# Altium integrated library Linear Technology Power Management LED Driver ICs.IntLib: 490 symbols (part 19 of 48)
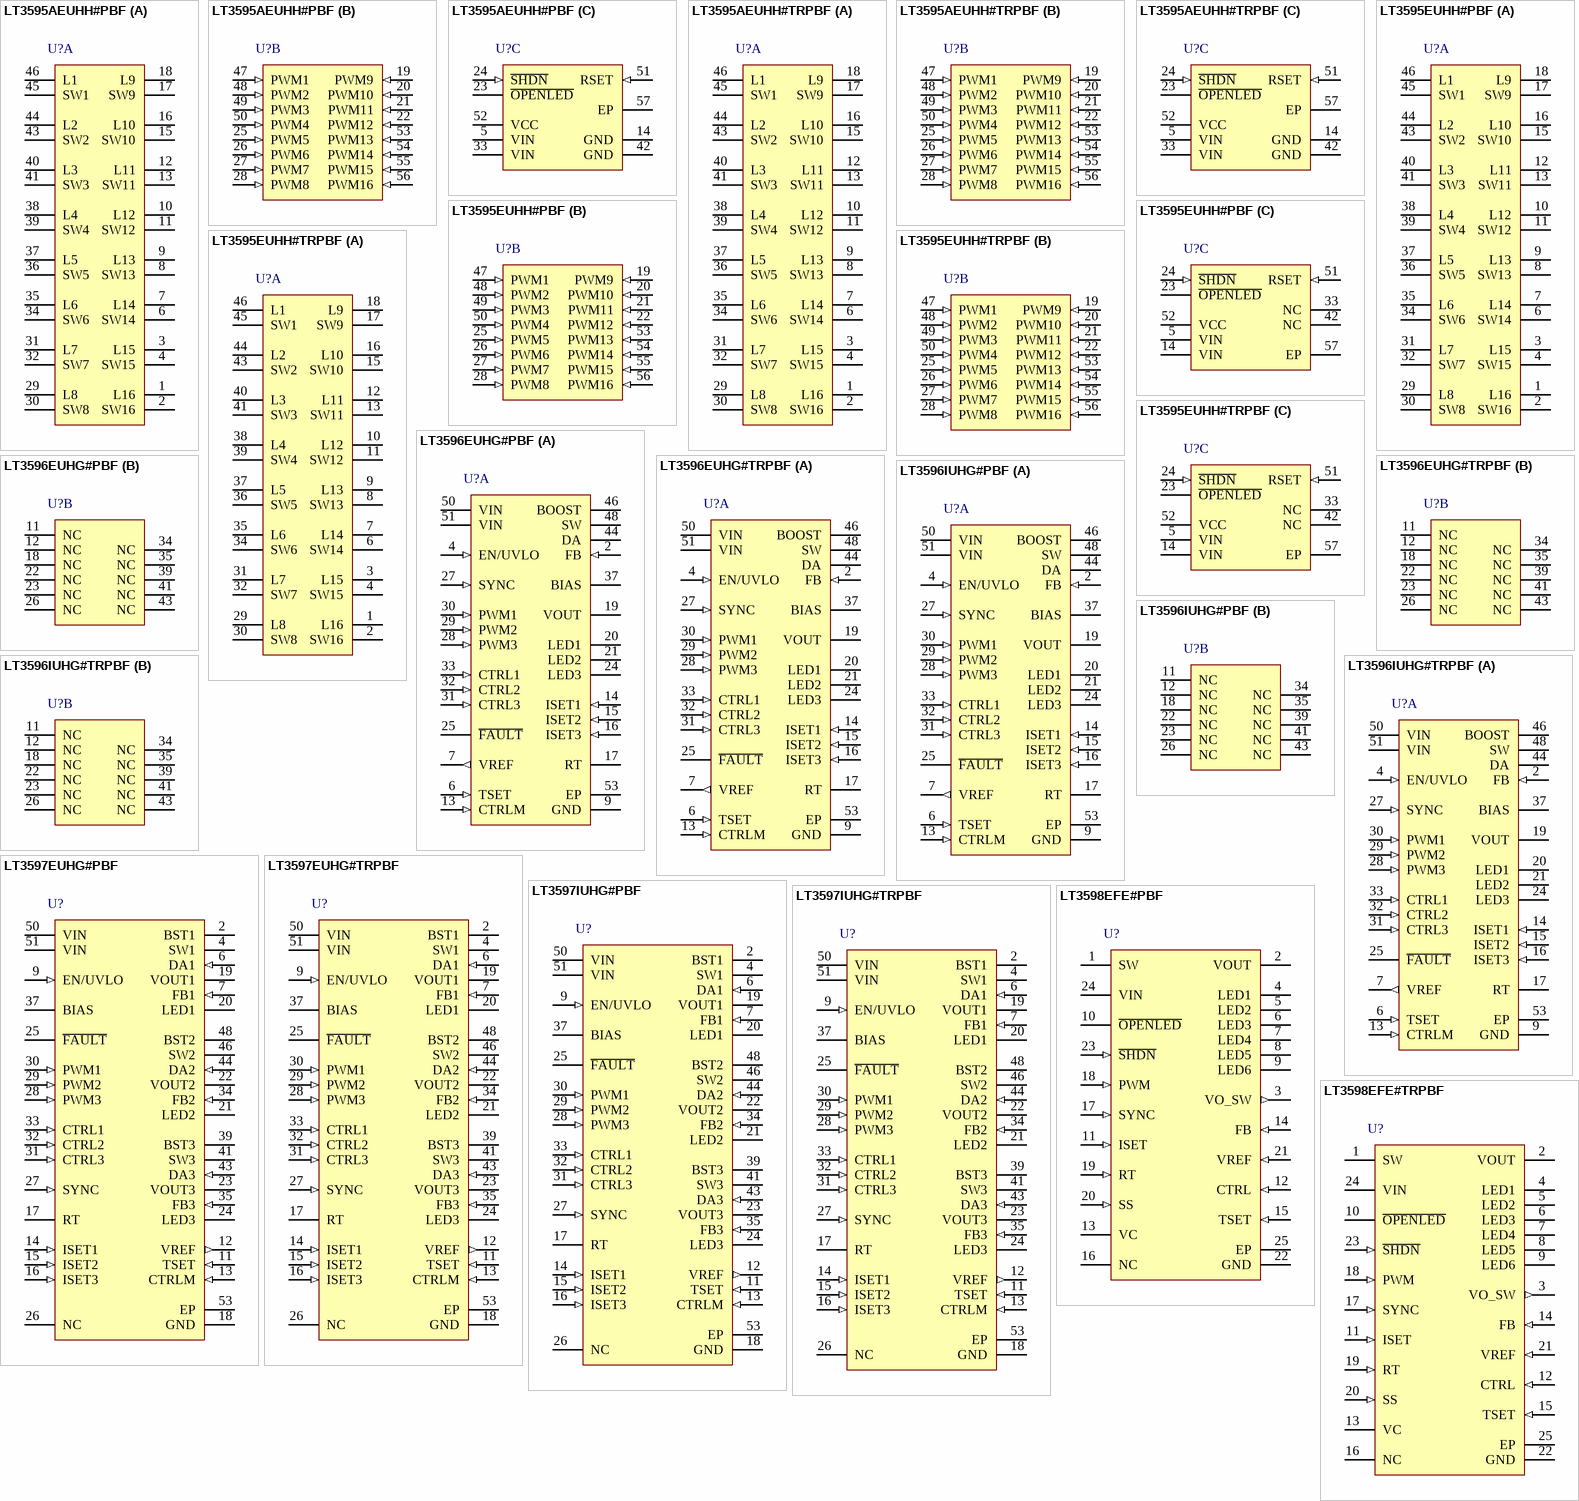
[diagram p38: symbols LT3595AEUHH#PBF to LT3598EFE#TRPBF]

## LT3598EFE#TRPBF
designator U?
6-String 30 mA LED Driver with 1.5% Current Matching, 3.2 to 30 V Vin, 44 V Vout MAX, 24-pin SOP (FE-24-EPV-AA), -40 to 125 degC, Pb-Free, Tape and Reel; Manufacturer: Linear Technology; PartNumber: LT3598EFE#TRPBF; Topology: Boost, Sepic, LED Driver; Vin Min(V): 3.2; DatasheetVersion: Rev. B; PackageVersion: Rev. B, 09/2010; PackageReference: FE-24; PackageDescription: 24-Pin Plastic TSSOP, Body 7.8 x 4.4 mm, Pitch 0.65 mm; Supplier 1: Digi-Key; Supplier Part Number 1: LT3598EFE#TRPBF-ND; Packing: Tape and Reel; RoHS: TRUE; Mounting Technology: Surface Mount; ComponentLink1Description: Manufacturer URL; ComponentLink1URL: http://www.linear.com/; ComponentLink2Description: Datasheet; ComponentLink2URL: http://cds.linear.com/docs/en/datasheet/3598fb.pdf; ComponentLink3Description: Package Specification; ComponentLink3URL: http://cds.linear.com/docs/en/packaging/TSSOP_24_05-08-1771.pdf
footprint LT-FE-24-EPV-AA_N (SOP, 24-Leads, Body 7.9x4.5mm, Pitch 0.65mm, Thermal Pad 2.74x3.25mm, IPC Medium Density)
footprint LT-FE-24-EPV-AA_L (SOP, 24-Leads, Body 7.9x4.5mm, Pitch 0.65mm, Thermal Pad 2.74x3.25mm, IPC High Density)
footprint LT-FE-24-EPV-AA_M (SOP, 24-Leads, Body 7.9x4.5mm, Pitch 0.65mm, Thermal Pad 2.74x3.25mm, IPC Low Density)
pins: 1 SW (power) "Switch Pin. This is the collector of the internal NPN power switch. Minimize the metal trace area connected to this pin to minimize EMI.", 2 VOUT (power) "Output Pin. This pin provides power to all LEDs.", 3 VO_SW (out) "Drain of an Internal PMOS. The internal PMOS disconnects the feedback resistors from the VOUT pin during shutdown and the PWM transitioned to low.", 4 LED1 (power) "LED String Output. Connect the bottom cathode of each LED string to these pins. Tie pins to VOUT if the string is not used.", 5 LED2 (power) "LED String Output. Connect the bottom cathode of each LED string to these pins. Tie pins to VOUT if the string is not used.", 6 LED3 (power) "LED String Output. Connect the bottom cathode of each LED string to these pins. Tie pins to VOUT if the string is not used.", 7 LED4 (power) "LED String Output. Connect the bottom cathode of each LED string to these pins. Tie pins to VOUT if the string is not used.", 8 LED5 (power) "LED String Output. Connect the bottom cathode of each LED string to these pins. Tie pins to VOUT if the string is not used.", 9 LED6 (power) "LED String Output. Connect the bottom cathode of each LED string to these pins. Tie pins to VOUT if the string is not used.", 10 ~{OPENLED} (oc) "Open LED Flag When Any LED String Opens. The output is open-collector. Tie a resistor to other supply for open LED fl ag function.", 11 ISET (in) "Programs LED Current for Each String. Connect a 14.7k resistor between ISET and GND to program each LED string current to 20mA. A 47pF capacitor on the ISET pin reduces current ripple in each LED string.", 12 CTRL (in) "LED Current Control. If the CTRL pin is not used, tie this pin to VREF through a 10k to 20k resistor.", 13 VC "Error Amplifier Output Pin. Tie the external compensation network to this pin.", 14 FB (in) "Feedback Pin for Overvoltage Protection. Reference voltage is 1.230V. Connect the resistive divider tap here. Minimize trace area at FB. Set VOUT according to VOUT = 1.230(1 + R2/R1) when overvoltage protection occurs (see (See Datasheet)", 15 TSET (in) "An external resistor divider from VREF programs a decrease in LED current versus internal junction temperature (setting temperature breakpoint and slope). If the TSET pin is not used, tie this pin to VREF.", 16 NC "No Connection.", 17 SYNC (in) "Frequency Synchronization Pin. This input allows for synchronizing the operating frequency to an external clock. The RT resistor should be chosen to program a switching frequency 20% slower than SYNC pulse frequency. This (See Datasheet)", 18 PWM (in) "Input Pin for PWM Dimming Control. Above 1V allows converter switching and below 0.4V disables switching with VC pin level maintained. A PWM signal driving the PWM pin provides accurate dimming control. The PWM signal can be (See Datasheet)", 19 RT (in) "A resistor to ground programs switching frequency between 200kHz and 2.5MHz. For SYNC function, choose the resistor to program a frequency 20% slower than the SYNC pulse frequency. Do not leave this pin open.", 20 SS (in) "Soft-Start Pin. Place a soft-start capacitor here. Upon start-up, a 10uA current charges the capacitor. Use a larger capacitor for slower start-up. Leave open if not used.", 21 VREF (in) "Bandgap Voltage Reference. Internally set to 1.230V. This pin can supply up to 100uA. Can be used to program the CTRL pin voltage using resistor dividers to ground.", 22 GND (power) "Ground. Tie directly to local ground plane.", 23 ~{SHDN} (in) "Shutdown Pin. Tie to 1.6V or more to enable the device. Tie below 0.4V or less to disable device. Do not fl oat this pin.", 24 VIN (power) "Input Supply Pin. Must be locally bypassed with a capacitor to ground.", 25 EP (power) "Ground. The Exposed Pad must be soldered to the PCB"

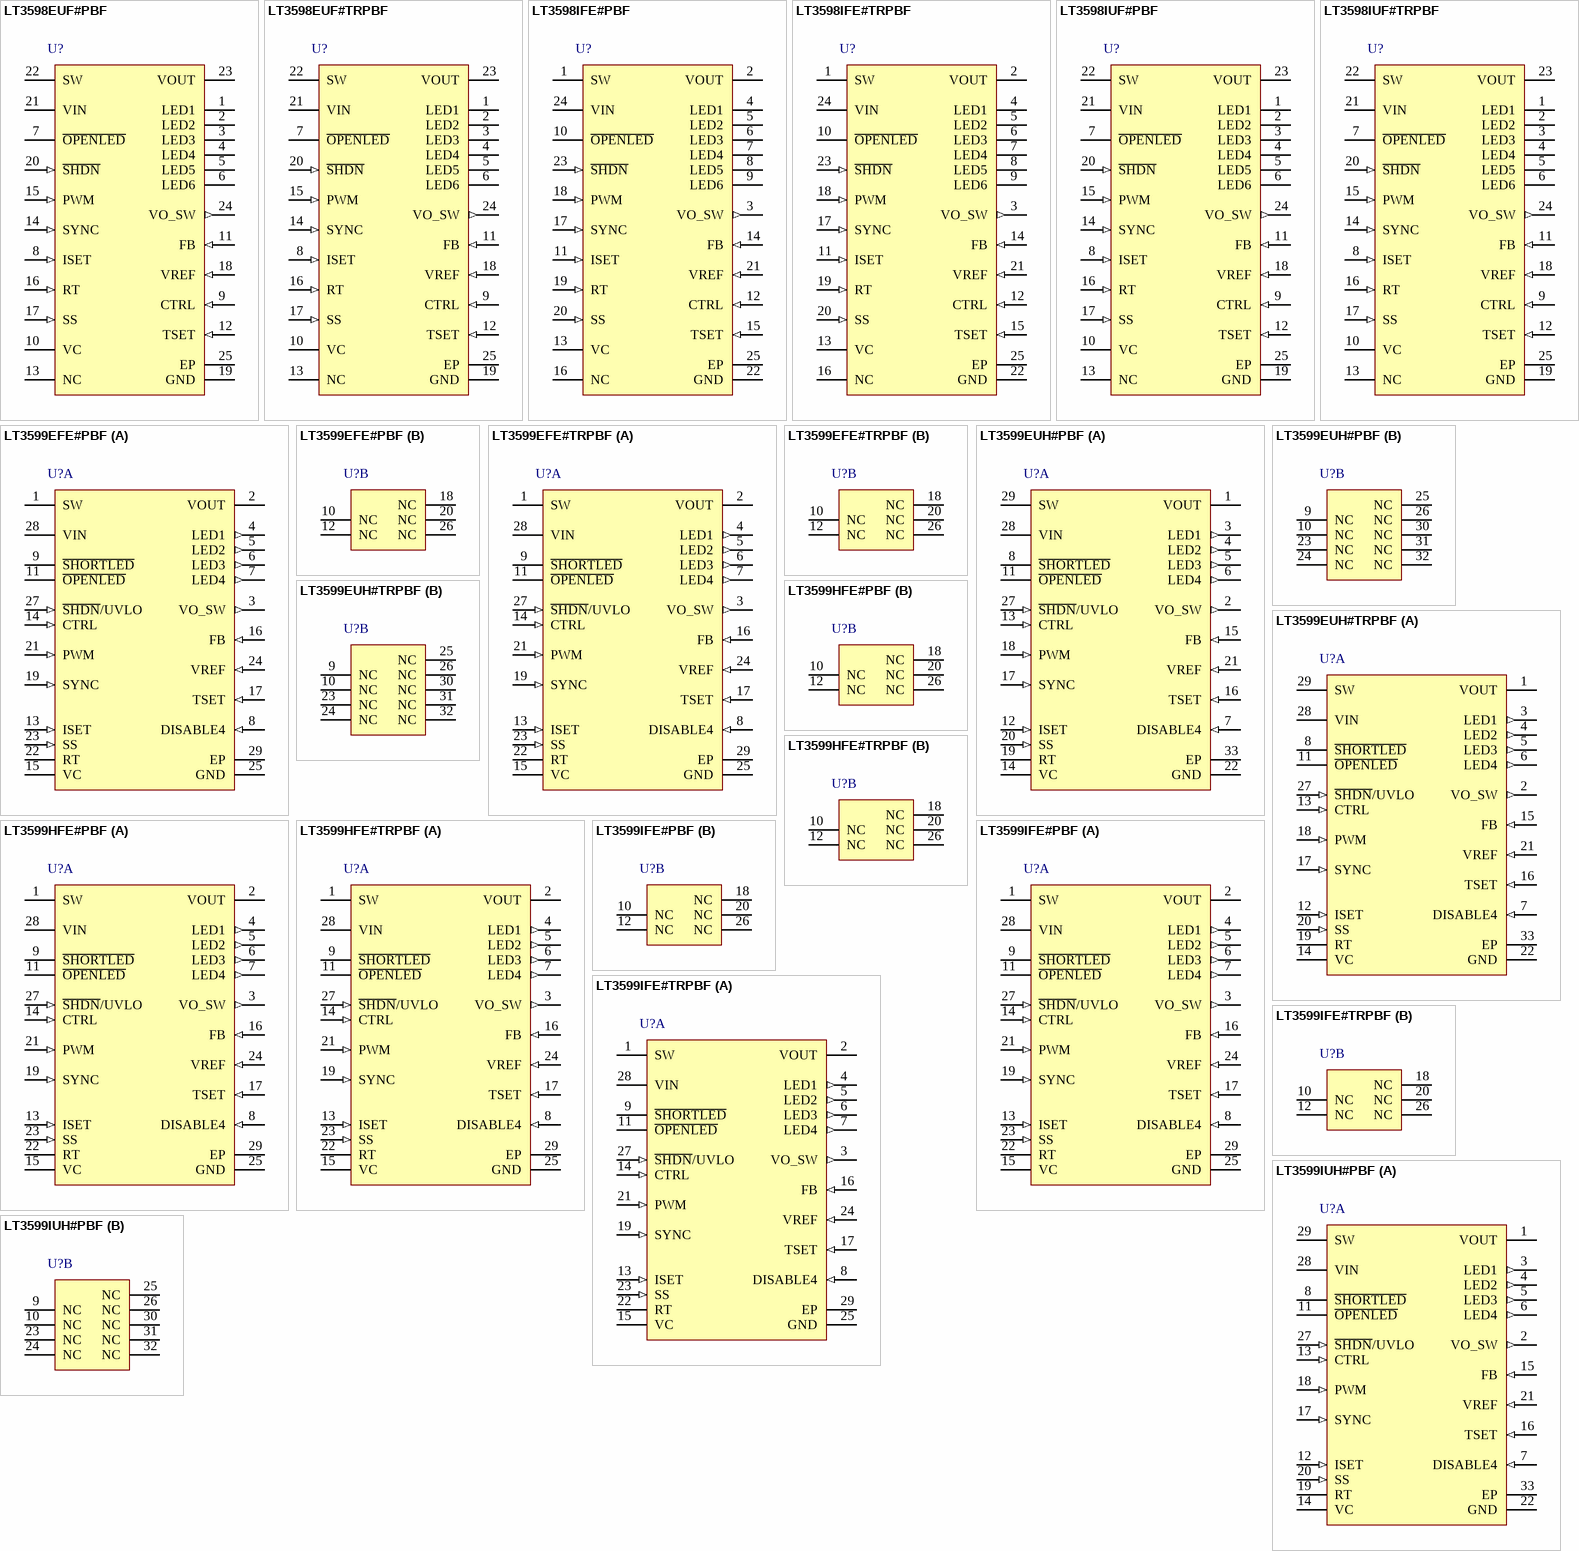
[diagram p8: symbols LT3598EUF#PBF to LT3599IUH#PBF]

## LT3598EUF#PBF
designator U?
6-String 30 mA LED Driver with 1.5% Current Matching, 3.2 to 30 V Vin, 44 V Vout MAX, 24-pin QFN (UF-24), -40 to 125 degC, Pb-Free; Manufacturer: Linear Technology; PartNumber: LT3598EUF#PBF; Topology: Boost, Sepic, LED Driver; Vin Min(V): 3.2; DatasheetVersion: Rev. B; PackageVersion: Rev. B, 02/2012; PackageReference: UF24; PackageDescription: 24-Pin Plastic QFN, Body 4 x 4 mm, Pitch 0.5 mm; Supplier 1: Digi-Key; Supplier Part Number 1: LT3598EUF#PBF-ND; Supplier 2: Farnell; Supplier Part Number 2: 1673529; Supplier 3: Farnell; Supplier Part Number 3: 1671961; Supplier 4: Newark; Supplier Part Number 4: 12P6570; RoHS: TRUE; Mounting Technology: Surface Mount; Code_JEDEC: MO-220; ComponentLink1Description: Manufacturer URL; ComponentLink1URL: http://www.linear.com/; ComponentLink2Description: Datasheet; ComponentLink2URL: http://cds.linear.com/docs/en/datasheet/3598fb.pdf; ComponentLink3Description: Package Specification; ComponentLink3URL: http://cds.linear.com/docs/en/packaging/%28UF24%29%20QFN%2005-08-1697%20Rev%20B.pdf
footprint LT-UF-24_N (QFN, 24-Leads, Body 4.1x4.1mm, Pitch 0.5mm, Thermal Pad 2.45x2.45mm, IPC Medium Density)
footprint LT-UF-24_L (QFN, 24-Leads, Body 4.1x4.1mm, Pitch 0.5mm, Thermal Pad 2.45x2.45mm, IPC High Density)
footprint LT-UF-24_M (QFN, 24-Leads, Body 4.1x4.1mm, Pitch 0.5mm, Thermal Pad 2.45x2.45mm, IPC Low Density)
pins: 1 LED1 (power) "LED String Output. Connect the bottom cathode of each LED string to these pins. Tie pins to VOUT if the string is not used.", 2 LED2 (power) "LED String Output. Connect the bottom cathode of each LED string to these pins. Tie pins to VOUT if the string is not used.", 3 LED3 (power) "LED String Output. Connect the bottom cathode of each LED string to these pins. Tie pins to VOUT if the string is not used.", 4 LED4 (power) "LED String Output. Connect the bottom cathode of each LED string to these pins. Tie pins to VOUT if the string is not used.", 5 LED5 (power) "LED String Output. Connect the bottom cathode of each LED string to these pins. Tie pins to VOUT if the string is not used.", 6 LED6 (power) "LED String Output. Connect the bottom cathode of each LED string to these pins. Tie pins to VOUT if the string is not used.", 7 ~{OPENLED} (oc) "Open LED Flag When Any LED String Opens. The output is open-collector. Tie a resistor to other supply for open LED fl ag function.", 8 ISET (in) "Programs LED Current for Each String. Connect a 14.7k resistor between ISET and GND to program each LED string current to 20mA. A 47pF capacitor on the ISET pin reduces current ripple in each LED string.", 9 CTRL (in) "LED Current Control. If the CTRL pin is not used, tie this pin to VREF through a 10k to 20k resistor.", 10 VC "Error Amplifier Output Pin. Tie the external compensation network to this pin.", 11 FB (in) "Feedback Pin for Overvoltage Protection. Reference voltage is 1.230V. Connect the resistive divider tap here. Minimize trace area at FB. Set VOUT according to VOUT = 1.230(1 + R2/R1) when overvoltage protection occurs (see (See Datasheet)", 12 TSET (in) "An external resistor divider from VREF programs a decrease in LED current versus internal junction temperature (setting temperature breakpoint and slope). If the TSET pin is not used, tie this pin to VREF.", 13 NC "No Connection.", 14 SYNC (in) "Frequency Synchronization Pin. This input allows for synchronizing the operating frequency to an external clock. The RT resistor should be chosen to program a switching frequency 20% slower than SYNC pulse frequency. This (See Datasheet)", 15 PWM (in) "Input Pin for PWM Dimming Control. Above 1V allows converter switching and below 0.4V disables switching with VC pin level maintained. A PWM signal driving the PWM pin provides accurate dimming control. The PWM signal can be (See Datasheet)", 16 RT (in) "A resistor to ground programs switching frequency between 200kHz and 2.5MHz. For SYNC function, choose the resistor to program a frequency 20% slower than the SYNC pulse frequency. Do not leave this pin open.", 17 SS (in) "Soft-Start Pin. Place a soft-start capacitor here. Upon start-up, a 10uA current charges the capacitor. Use a larger capacitor for slower start-up. Leave open if not used.", 18 VREF (in) "Bandgap Voltage Reference. Internally set to 1.230V. This pin can supply up to 100uA. Can be used to program the CTRL pin voltage using resistor dividers to ground.", 19 GND (power) "Ground. Tie directly to local ground plane.", 20 ~{SHDN} (in) "Shutdown Pin. Tie to 1.6V or more to enable the device. Tie below 0.4V or less to disable device. Do not fl oat this pin.", 21 VIN (power) "Input Supply Pin. Must be locally bypassed with a capacitor to ground.", 22 SW (power) "Switch Pin. This is the collector of the internal NPN power switch. Minimize the metal trace area connected to this pin to minimize EMI.", 23 VOUT (power) "Output Pin. This pin provides power to all LEDs.", 24 VO_SW (out) "Drain of an Internal PMOS. The internal PMOS disconnects the feedback resistors from the VOUT pin during shutdown and the PWM transitioned to low.", 25 EP (power) "Ground. The Exposed Pad must be soldered to the PCB"

## LT3598EUF#TRPBF
designator U?
6-String 30 mA LED Driver with 1.5% Current Matching, 3.2 to 30 V Vin, 44 V Vout MAX, 24-pin QFN (UF-24), -40 to 125 degC, Pb-Free, Tape and Reel; Manufacturer: Linear Technology; PartNumber: LT3598EUF#TRPBF; Topology: Boost, Sepic, LED Driver; Vin Min(V): 3.2; DatasheetVersion: Rev. B; PackageVersion: Rev. B, 02/2012; PackageReference: UF24; PackageDescription: 24-Pin Plastic QFN, Body 4 x 4 mm, Pitch 0.5 mm; Supplier 1: Digi-Key; Supplier Part Number 1: LT3598EUF#TRPBF-ND; Packing: Tape and Reel; RoHS: TRUE; Mounting Technology: Surface Mount; Code_JEDEC: MO-220; ComponentLink1Description: Manufacturer URL; ComponentLink1URL: http://www.linear.com/; ComponentLink2Description: Datasheet; ComponentLink2URL: http://cds.linear.com/docs/en/datasheet/3598fb.pdf; ComponentLink3Description: Package Specification; ComponentLink3URL: http://cds.linear.com/docs/en/packaging/%28UF24%29%20QFN%2005-08-1697%20Rev%20B.pdf
footprint LT-UF-24_N (QFN, 24-Leads, Body 4.1x4.1mm, Pitch 0.5mm, Thermal Pad 2.45x2.45mm, IPC Medium Density)
footprint LT-UF-24_L (QFN, 24-Leads, Body 4.1x4.1mm, Pitch 0.5mm, Thermal Pad 2.45x2.45mm, IPC High Density)
footprint LT-UF-24_M (QFN, 24-Leads, Body 4.1x4.1mm, Pitch 0.5mm, Thermal Pad 2.45x2.45mm, IPC Low Density)
pins: 1 LED1 (power) "LED String Output. Connect the bottom cathode of each LED string to these pins. Tie pins to VOUT if the string is not used.", 2 LED2 (power) "LED String Output. Connect the bottom cathode of each LED string to these pins. Tie pins to VOUT if the string is not used.", 3 LED3 (power) "LED String Output. Connect the bottom cathode of each LED string to these pins. Tie pins to VOUT if the string is not used.", 4 LED4 (power) "LED String Output. Connect the bottom cathode of each LED string to these pins. Tie pins to VOUT if the string is not used.", 5 LED5 (power) "LED String Output. Connect the bottom cathode of each LED string to these pins. Tie pins to VOUT if the string is not used.", 6 LED6 (power) "LED String Output. Connect the bottom cathode of each LED string to these pins. Tie pins to VOUT if the string is not used.", 7 ~{OPENLED} (oc) "Open LED Flag When Any LED String Opens. The output is open-collector. Tie a resistor to other supply for open LED fl ag function.", 8 ISET (in) "Programs LED Current for Each String. Connect a 14.7k resistor between ISET and GND to program each LED string current to 20mA. A 47pF capacitor on the ISET pin reduces current ripple in each LED string.", 9 CTRL (in) "LED Current Control. If the CTRL pin is not used, tie this pin to VREF through a 10k to 20k resistor.", 10 VC "Error Amplifier Output Pin. Tie the external compensation network to this pin.", 11 FB (in) "Feedback Pin for Overvoltage Protection. Reference voltage is 1.230V. Connect the resistive divider tap here. Minimize trace area at FB. Set VOUT according to VOUT = 1.230(1 + R2/R1) when overvoltage protection occurs (see (See Datasheet)", 12 TSET (in) "An external resistor divider from VREF programs a decrease in LED current versus internal junction temperature (setting temperature breakpoint and slope). If the TSET pin is not used, tie this pin to VREF.", 13 NC "No Connection.", 14 SYNC (in) "Frequency Synchronization Pin. This input allows for synchronizing the operating frequency to an external clock. The RT resistor should be chosen to program a switching frequency 20% slower than SYNC pulse frequency. This (See Datasheet)", 15 PWM (in) "Input Pin for PWM Dimming Control. Above 1V allows converter switching and below 0.4V disables switching with VC pin level maintained. A PWM signal driving the PWM pin provides accurate dimming control. The PWM signal can be (See Datasheet)", 16 RT (in) "A resistor to ground programs switching frequency between 200kHz and 2.5MHz. For SYNC function, choose the resistor to program a frequency 20% slower than the SYNC pulse frequency. Do not leave this pin open.", 17 SS (in) "Soft-Start Pin. Place a soft-start capacitor here. Upon start-up, a 10uA current charges the capacitor. Use a larger capacitor for slower start-up. Leave open if not used.", 18 VREF (in) "Bandgap Voltage Reference. Internally set to 1.230V. This pin can supply up to 100uA. Can be used to program the CTRL pin voltage using resistor dividers to ground.", 19 GND (power) "Ground. Tie directly to local ground plane.", 20 ~{SHDN} (in) "Shutdown Pin. Tie to 1.6V or more to enable the device. Tie below 0.4V or less to disable device. Do not fl oat this pin.", 21 VIN (power) "Input Supply Pin. Must be locally bypassed with a capacitor to ground.", 22 SW (power) "Switch Pin. This is the collector of the internal NPN power switch. Minimize the metal trace area connected to this pin to minimize EMI.", 23 VOUT (power) "Output Pin. This pin provides power to all LEDs.", 24 VO_SW (out) "Drain of an Internal PMOS. The internal PMOS disconnects the feedback resistors from the VOUT pin during shutdown and the PWM transitioned to low.", 25 EP (power) "Ground. The Exposed Pad must be soldered to the PCB"

## LT3598IFE#PBF
designator U?
6-String 30 mA LED Driver with 1.5% Current Matching, 3.2 to 30 V Vin, 44 V Vout MAX, 24-pin SOP (FE-24-EPV-AA), -40 to 125 degC, Pb-Free; Manufacturer: Linear Technology; PartNumber: LT3598IFE#PBF; Topology: Boost, Sepic, LED Driver; Vin Min(V): 3.2; DatasheetVersion: Rev. B; PackageVersion: Rev. B, 09/2010; PackageReference: FE-24; PackageDescription: 24-Pin Plastic TSSOP, Body 7.8 x 4.4 mm, Pitch 0.65 mm; Supplier 1: Digi-Key; Supplier Part Number 1: LT3598IFE#PBF-ND; Supplier 2: Farnell; Supplier Part Number 2: 2294853; Supplier 3: Newark; Supplier Part Number 3: 05R7691; RoHS: TRUE; Mounting Technology: Surface Mount; ComponentLink1Description: Manufacturer URL; ComponentLink1URL: http://www.linear.com/; ComponentLink2Description: Datasheet; ComponentLink2URL: http://cds.linear.com/docs/en/datasheet/3598fb.pdf; ComponentLink3Description: Package Specification; ComponentLink3URL: http://cds.linear.com/docs/en/packaging/TSSOP_24_05-08-1771.pdf
footprint LT-FE-24-EPV-AA_N (SOP, 24-Leads, Body 7.9x4.5mm, Pitch 0.65mm, Thermal Pad 2.74x3.25mm, IPC Medium Density)
footprint LT-FE-24-EPV-AA_L (SOP, 24-Leads, Body 7.9x4.5mm, Pitch 0.65mm, Thermal Pad 2.74x3.25mm, IPC High Density)
footprint LT-FE-24-EPV-AA_M (SOP, 24-Leads, Body 7.9x4.5mm, Pitch 0.65mm, Thermal Pad 2.74x3.25mm, IPC Low Density)
pins: 1 SW (power) "Switch Pin. This is the collector of the internal NPN power switch. Minimize the metal trace area connected to this pin to minimize EMI.", 2 VOUT (power) "Output Pin. This pin provides power to all LEDs.", 3 VO_SW (out) "Drain of an Internal PMOS. The internal PMOS disconnects the feedback resistors from the VOUT pin during shutdown and the PWM transitioned to low.", 4 LED1 (power) "LED String Output. Connect the bottom cathode of each LED string to these pins. Tie pins to VOUT if the string is not used.", 5 LED2 (power) "LED String Output. Connect the bottom cathode of each LED string to these pins. Tie pins to VOUT if the string is not used.", 6 LED3 (power) "LED String Output. Connect the bottom cathode of each LED string to these pins. Tie pins to VOUT if the string is not used.", 7 LED4 (power) "LED String Output. Connect the bottom cathode of each LED string to these pins. Tie pins to VOUT if the string is not used.", 8 LED5 (power) "LED String Output. Connect the bottom cathode of each LED string to these pins. Tie pins to VOUT if the string is not used.", 9 LED6 (power) "LED String Output. Connect the bottom cathode of each LED string to these pins. Tie pins to VOUT if the string is not used.", 10 ~{OPENLED} (oc) "Open LED Flag When Any LED String Opens. The output is open-collector. Tie a resistor to other supply for open LED fl ag function.", 11 ISET (in) "Programs LED Current for Each String. Connect a 14.7k resistor between ISET and GND to program each LED string current to 20mA. A 47pF capacitor on the ISET pin reduces current ripple in each LED string.", 12 CTRL (in) "LED Current Control. If the CTRL pin is not used, tie this pin to VREF through a 10k to 20k resistor.", 13 VC "Error Amplifier Output Pin. Tie the external compensation network to this pin.", 14 FB (in) "Feedback Pin for Overvoltage Protection. Reference voltage is 1.230V. Connect the resistive divider tap here. Minimize trace area at FB. Set VOUT according to VOUT = 1.230(1 + R2/R1) when overvoltage protection occurs (see (See Datasheet)", 15 TSET (in) "An external resistor divider from VREF programs a decrease in LED current versus internal junction temperature (setting temperature breakpoint and slope). If the TSET pin is not used, tie this pin to VREF.", 16 NC "No Connection.", 17 SYNC (in) "Frequency Synchronization Pin. This input allows for synchronizing the operating frequency to an external clock. The RT resistor should be chosen to program a switching frequency 20% slower than SYNC pulse frequency. This (See Datasheet)", 18 PWM (in) "Input Pin for PWM Dimming Control. Above 1V allows converter switching and below 0.4V disables switching with VC pin level maintained. A PWM signal driving the PWM pin provides accurate dimming control. The PWM signal can be (See Datasheet)", 19 RT (in) "A resistor to ground programs switching frequency between 200kHz and 2.5MHz. For SYNC function, choose the resistor to program a frequency 20% slower than the SYNC pulse frequency. Do not leave this pin open.", 20 SS (in) "Soft-Start Pin. Place a soft-start capacitor here. Upon start-up, a 10uA current charges the capacitor. Use a larger capacitor for slower start-up. Leave open if not used.", 21 VREF (in) "Bandgap Voltage Reference. Internally set to 1.230V. This pin can supply up to 100uA. Can be used to program the CTRL pin voltage using resistor dividers to ground.", 22 GND (power) "Ground. Tie directly to local ground plane.", 23 ~{SHDN} (in) "Shutdown Pin. Tie to 1.6V or more to enable the device. Tie below 0.4V or less to disable device. Do not fl oat this pin.", 24 VIN (power) "Input Supply Pin. Must be locally bypassed with a capacitor to ground.", 25 EP (power) "Ground. The Exposed Pad must be soldered to the PCB"

## LT3598IFE#TRPBF
designator U?
6-String 30 mA LED Driver with 1.5% Current Matching, 3.2 to 30 V Vin, 44 V Vout MAX, 24-pin SOP (FE-24-EPV-AA), -40 to 125 degC, Pb-Free, Tape and Reel; Manufacturer: Linear Technology; PartNumber: LT3598IFE#TRPBF; Topology: Boost, Sepic, LED Driver; Vin Min(V): 3.2; DatasheetVersion: Rev. B; PackageVersion: Rev. B, 09/2010; PackageReference: FE-24; PackageDescription: 24-Pin Plastic TSSOP, Body 7.8 x 4.4 mm, Pitch 0.65 mm; Supplier 1: Digi-Key; Supplier Part Number 1: LT3598IFE#TRPBF-ND; Packing: Tape and Reel; RoHS: TRUE; Mounting Technology: Surface Mount; ComponentLink1Description: Manufacturer URL; ComponentLink1URL: http://www.linear.com/; ComponentLink2Description: Datasheet; ComponentLink2URL: http://cds.linear.com/docs/en/datasheet/3598fb.pdf; ComponentLink3Description: Package Specification; ComponentLink3URL: http://cds.linear.com/docs/en/packaging/TSSOP_24_05-08-1771.pdf
footprint LT-FE-24-EPV-AA_N (SOP, 24-Leads, Body 7.9x4.5mm, Pitch 0.65mm, Thermal Pad 2.74x3.25mm, IPC Medium Density)
footprint LT-FE-24-EPV-AA_L (SOP, 24-Leads, Body 7.9x4.5mm, Pitch 0.65mm, Thermal Pad 2.74x3.25mm, IPC High Density)
footprint LT-FE-24-EPV-AA_M (SOP, 24-Leads, Body 7.9x4.5mm, Pitch 0.65mm, Thermal Pad 2.74x3.25mm, IPC Low Density)
pins: 1 SW (power) "Switch Pin. This is the collector of the internal NPN power switch. Minimize the metal trace area connected to this pin to minimize EMI.", 2 VOUT (power) "Output Pin. This pin provides power to all LEDs.", 3 VO_SW (out) "Drain of an Internal PMOS. The internal PMOS disconnects the feedback resistors from the VOUT pin during shutdown and the PWM transitioned to low.", 4 LED1 (power) "LED String Output. Connect the bottom cathode of each LED string to these pins. Tie pins to VOUT if the string is not used.", 5 LED2 (power) "LED String Output. Connect the bottom cathode of each LED string to these pins. Tie pins to VOUT if the string is not used.", 6 LED3 (power) "LED String Output. Connect the bottom cathode of each LED string to these pins. Tie pins to VOUT if the string is not used.", 7 LED4 (power) "LED String Output. Connect the bottom cathode of each LED string to these pins. Tie pins to VOUT if the string is not used.", 8 LED5 (power) "LED String Output. Connect the bottom cathode of each LED string to these pins. Tie pins to VOUT if the string is not used.", 9 LED6 (power) "LED String Output. Connect the bottom cathode of each LED string to these pins. Tie pins to VOUT if the string is not used.", 10 ~{OPENLED} (oc) "Open LED Flag When Any LED String Opens. The output is open-collector. Tie a resistor to other supply for open LED fl ag function.", 11 ISET (in) "Programs LED Current for Each String. Connect a 14.7k resistor between ISET and GND to program each LED string current to 20mA. A 47pF capacitor on the ISET pin reduces current ripple in each LED string.", 12 CTRL (in) "LED Current Control. If the CTRL pin is not used, tie this pin to VREF through a 10k to 20k resistor.", 13 VC "Error Amplifier Output Pin. Tie the external compensation network to this pin.", 14 FB (in) "Feedback Pin for Overvoltage Protection. Reference voltage is 1.230V. Connect the resistive divider tap here. Minimize trace area at FB. Set VOUT according to VOUT = 1.230(1 + R2/R1) when overvoltage protection occurs (see (See Datasheet)", 15 TSET (in) "An external resistor divider from VREF programs a decrease in LED current versus internal junction temperature (setting temperature breakpoint and slope). If the TSET pin is not used, tie this pin to VREF.", 16 NC "No Connection.", 17 SYNC (in) "Frequency Synchronization Pin. This input allows for synchronizing the operating frequency to an external clock. The RT resistor should be chosen to program a switching frequency 20% slower than SYNC pulse frequency. This (See Datasheet)", 18 PWM (in) "Input Pin for PWM Dimming Control. Above 1V allows converter switching and below 0.4V disables switching with VC pin level maintained. A PWM signal driving the PWM pin provides accurate dimming control. The PWM signal can be (See Datasheet)", 19 RT (in) "A resistor to ground programs switching frequency between 200kHz and 2.5MHz. For SYNC function, choose the resistor to program a frequency 20% slower than the SYNC pulse frequency. Do not leave this pin open.", 20 SS (in) "Soft-Start Pin. Place a soft-start capacitor here. Upon start-up, a 10uA current charges the capacitor. Use a larger capacitor for slower start-up. Leave open if not used.", 21 VREF (in) "Bandgap Voltage Reference. Internally set to 1.230V. This pin can supply up to 100uA. Can be used to program the CTRL pin voltage using resistor dividers to ground.", 22 GND (power) "Ground. Tie directly to local ground plane.", 23 ~{SHDN} (in) "Shutdown Pin. Tie to 1.6V or more to enable the device. Tie below 0.4V or less to disable device. Do not fl oat this pin.", 24 VIN (power) "Input Supply Pin. Must be locally bypassed with a capacitor to ground.", 25 EP (power) "Ground. The Exposed Pad must be soldered to the PCB"

## LT3598IUF#PBF
designator U?
6-String 30 mA LED Driver with 1.5% Current Matching, 3.2 to 30 V Vin, 44 V Vout MAX, 24-pin QFN (UF-24), -40 to 125 degC, Pb-Free; Manufacturer: Linear Technology; PartNumber: LT3598IUF#PBF; Topology: Boost, Sepic, LED Driver; Vin Min(V): 3.2; DatasheetVersion: Rev. B; PackageVersion: Rev. B, 02/2012; PackageReference: UF24; PackageDescription: 24-Pin Plastic QFN, Body 4 x 4 mm, Pitch 0.5 mm; Supplier 1: Digi-Key; Supplier Part Number 1: LT3598IUF#PBF-ND; Supplier 2: Farnell; Supplier Part Number 2: 1673524; Supplier 3: Newark; Supplier Part Number 3: 12P7617; RoHS: TRUE; Mounting Technology: Surface Mount; Code_JEDEC: MO-220; ComponentLink1Description: Manufacturer URL; ComponentLink1URL: http://www.linear.com/; ComponentLink2Description: Datasheet; ComponentLink2URL: http://cds.linear.com/docs/en/datasheet/3598fb.pdf; ComponentLink3Description: Package Specification; ComponentLink3URL: http://cds.linear.com/docs/en/packaging/%28UF24%29%20QFN%2005-08-1697%20Rev%20B.pdf
footprint LT-UF-24_N (QFN, 24-Leads, Body 4.1x4.1mm, Pitch 0.5mm, Thermal Pad 2.45x2.45mm, IPC Medium Density)
footprint LT-UF-24_L (QFN, 24-Leads, Body 4.1x4.1mm, Pitch 0.5mm, Thermal Pad 2.45x2.45mm, IPC High Density)
footprint LT-UF-24_M (QFN, 24-Leads, Body 4.1x4.1mm, Pitch 0.5mm, Thermal Pad 2.45x2.45mm, IPC Low Density)
pins: 1 LED1 (power) "LED String Output. Connect the bottom cathode of each LED string to these pins. Tie pins to VOUT if the string is not used.", 2 LED2 (power) "LED String Output. Connect the bottom cathode of each LED string to these pins. Tie pins to VOUT if the string is not used.", 3 LED3 (power) "LED String Output. Connect the bottom cathode of each LED string to these pins. Tie pins to VOUT if the string is not used.", 4 LED4 (power) "LED String Output. Connect the bottom cathode of each LED string to these pins. Tie pins to VOUT if the string is not used.", 5 LED5 (power) "LED String Output. Connect the bottom cathode of each LED string to these pins. Tie pins to VOUT if the string is not used.", 6 LED6 (power) "LED String Output. Connect the bottom cathode of each LED string to these pins. Tie pins to VOUT if the string is not used.", 7 ~{OPENLED} (oc) "Open LED Flag When Any LED String Opens. The output is open-collector. Tie a resistor to other supply for open LED fl ag function.", 8 ISET (in) "Programs LED Current for Each String. Connect a 14.7k resistor between ISET and GND to program each LED string current to 20mA. A 47pF capacitor on the ISET pin reduces current ripple in each LED string.", 9 CTRL (in) "LED Current Control. If the CTRL pin is not used, tie this pin to VREF through a 10k to 20k resistor.", 10 VC "Error Amplifier Output Pin. Tie the external compensation network to this pin.", 11 FB (in) "Feedback Pin for Overvoltage Protection. Reference voltage is 1.230V. Connect the resistive divider tap here. Minimize trace area at FB. Set VOUT according to VOUT = 1.230(1 + R2/R1) when overvoltage protection occurs (see (See Datasheet)", 12 TSET (in) "An external resistor divider from VREF programs a decrease in LED current versus internal junction temperature (setting temperature breakpoint and slope). If the TSET pin is not used, tie this pin to VREF.", 13 NC "No Connection.", 14 SYNC (in) "Frequency Synchronization Pin. This input allows for synchronizing the operating frequency to an external clock. The RT resistor should be chosen to program a switching frequency 20% slower than SYNC pulse frequency. This (See Datasheet)", 15 PWM (in) "Input Pin for PWM Dimming Control. Above 1V allows converter switching and below 0.4V disables switching with VC pin level maintained. A PWM signal driving the PWM pin provides accurate dimming control. The PWM signal can be (See Datasheet)", 16 RT (in) "A resistor to ground programs switching frequency between 200kHz and 2.5MHz. For SYNC function, choose the resistor to program a frequency 20% slower than the SYNC pulse frequency. Do not leave this pin open.", 17 SS (in) "Soft-Start Pin. Place a soft-start capacitor here. Upon start-up, a 10uA current charges the capacitor. Use a larger capacitor for slower start-up. Leave open if not used.", 18 VREF (in) "Bandgap Voltage Reference. Internally set to 1.230V. This pin can supply up to 100uA. Can be used to program the CTRL pin voltage using resistor dividers to ground.", 19 GND (power) "Ground. Tie directly to local ground plane.", 20 ~{SHDN} (in) "Shutdown Pin. Tie to 1.6V or more to enable the device. Tie below 0.4V or less to disable device. Do not fl oat this pin.", 21 VIN (power) "Input Supply Pin. Must be locally bypassed with a capacitor to ground.", 22 SW (power) "Switch Pin. This is the collector of the internal NPN power switch. Minimize the metal trace area connected to this pin to minimize EMI.", 23 VOUT (power) "Output Pin. This pin provides power to all LEDs.", 24 VO_SW (out) "Drain of an Internal PMOS. The internal PMOS disconnects the feedback resistors from the VOUT pin during shutdown and the PWM transitioned to low.", 25 EP (power) "Ground. The Exposed Pad must be soldered to the PCB"

## LT3598IUF#TRPBF
designator U?
6-String 30 mA LED Driver with 1.5% Current Matching, 3.2 to 30 V Vin, 44 V Vout MAX, 24-pin QFN (UF-24), -40 to 125 degC, Pb-Free, Tape and Reel; Manufacturer: Linear Technology; PartNumber: LT3598IUF#TRPBF; Topology: Boost, Sepic, LED Driver; Vin Min(V): 3.2; DatasheetVersion: Rev. B; PackageVersion: Rev. B, 02/2012; PackageReference: UF24; PackageDescription: 24-Pin Plastic QFN, Body 4 x 4 mm, Pitch 0.5 mm; Supplier 1: Digi-Key; Supplier Part Number 1: LT3598IUF#TRPBF-ND; Packing: Tape and Reel; RoHS: TRUE; Mounting Technology: Surface Mount; Code_JEDEC: MO-220; ComponentLink1Description: Manufacturer URL; ComponentLink1URL: http://www.linear.com/; ComponentLink2Description: Datasheet; ComponentLink2URL: http://cds.linear.com/docs/en/datasheet/3598fb.pdf; ComponentLink3Description: Package Specification; ComponentLink3URL: http://cds.linear.com/docs/en/packaging/%28UF24%29%20QFN%2005-08-1697%20Rev%20B.pdf
footprint LT-UF-24_N (QFN, 24-Leads, Body 4.1x4.1mm, Pitch 0.5mm, Thermal Pad 2.45x2.45mm, IPC Medium Density)
footprint LT-UF-24_L (QFN, 24-Leads, Body 4.1x4.1mm, Pitch 0.5mm, Thermal Pad 2.45x2.45mm, IPC High Density)
footprint LT-UF-24_M (QFN, 24-Leads, Body 4.1x4.1mm, Pitch 0.5mm, Thermal Pad 2.45x2.45mm, IPC Low Density)
pins: 1 LED1 (power) "LED String Output. Connect the bottom cathode of each LED string to these pins. Tie pins to VOUT if the string is not used.", 2 LED2 (power) "LED String Output. Connect the bottom cathode of each LED string to these pins. Tie pins to VOUT if the string is not used.", 3 LED3 (power) "LED String Output. Connect the bottom cathode of each LED string to these pins. Tie pins to VOUT if the string is not used.", 4 LED4 (power) "LED String Output. Connect the bottom cathode of each LED string to these pins. Tie pins to VOUT if the string is not used.", 5 LED5 (power) "LED String Output. Connect the bottom cathode of each LED string to these pins. Tie pins to VOUT if the string is not used.", 6 LED6 (power) "LED String Output. Connect the bottom cathode of each LED string to these pins. Tie pins to VOUT if the string is not used.", 7 ~{OPENLED} (oc) "Open LED Flag When Any LED String Opens. The output is open-collector. Tie a resistor to other supply for open LED fl ag function.", 8 ISET (in) "Programs LED Current for Each String. Connect a 14.7k resistor between ISET and GND to program each LED string current to 20mA. A 47pF capacitor on the ISET pin reduces current ripple in each LED string.", 9 CTRL (in) "LED Current Control. If the CTRL pin is not used, tie this pin to VREF through a 10k to 20k resistor.", 10 VC "Error Amplifier Output Pin. Tie the external compensation network to this pin.", 11 FB (in) "Feedback Pin for Overvoltage Protection. Reference voltage is 1.230V. Connect the resistive divider tap here. Minimize trace area at FB. Set VOUT according to VOUT = 1.230(1 + R2/R1) when overvoltage protection occurs (see (See Datasheet)", 12 TSET (in) "An external resistor divider from VREF programs a decrease in LED current versus internal junction temperature (setting temperature breakpoint and slope). If the TSET pin is not used, tie this pin to VREF.", 13 NC "No Connection.", 14 SYNC (in) "Frequency Synchronization Pin. This input allows for synchronizing the operating frequency to an external clock. The RT resistor should be chosen to program a switching frequency 20% slower than SYNC pulse frequency. This (See Datasheet)", 15 PWM (in) "Input Pin for PWM Dimming Control. Above 1V allows converter switching and below 0.4V disables switching with VC pin level maintained. A PWM signal driving the PWM pin provides accurate dimming control. The PWM signal can be (See Datasheet)", 16 RT (in) "A resistor to ground programs switching frequency between 200kHz and 2.5MHz. For SYNC function, choose the resistor to program a frequency 20% slower than the SYNC pulse frequency. Do not leave this pin open.", 17 SS (in) "Soft-Start Pin. Place a soft-start capacitor here. Upon start-up, a 10uA current charges the capacitor. Use a larger capacitor for slower start-up. Leave open if not used.", 18 VREF (in) "Bandgap Voltage Reference. Internally set to 1.230V. This pin can supply up to 100uA. Can be used to program the CTRL pin voltage using resistor dividers to ground.", 19 GND (power) "Ground. Tie directly to local ground plane.", 20 ~{SHDN} (in) "Shutdown Pin. Tie to 1.6V or more to enable the device. Tie below 0.4V or less to disable device. Do not fl oat this pin.", 21 VIN (power) "Input Supply Pin. Must be locally bypassed with a capacitor to ground.", 22 SW (power) "Switch Pin. This is the collector of the internal NPN power switch. Minimize the metal trace area connected to this pin to minimize EMI.", 23 VOUT (power) "Output Pin. This pin provides power to all LEDs.", 24 VO_SW (out) "Drain of an Internal PMOS. The internal PMOS disconnects the feedback resistors from the VOUT pin during shutdown and the PWM transitioned to low.", 25 EP (power) "Ground. The Exposed Pad must be soldered to the PCB"

## LT3599EFE#PBF
designator U?
4-Channel 100 mA LED Driver with 2% Current Matching, 3 to 30 V Vin, 44 V Vout MAX, 28-pin SOP (FE-28-EPV-EB), -40 to 125 degC, Pb-Free; Manufacturer: Linear Technology; PartNumber: LT3599EFE#PBF; Topology: Boost, Sepic, LED Driver; Vin Min(V): 3; DatasheetVersion: Rev. E; PackageVersion: Rev. J, 11/2012; PackageReference: FE-28; PackageDescription: 28-Pin Plastic TSSOP, Body 9.7 x 4.4 mm, Pitch 0.65 mm; Supplier 1: Digi-Key; Supplier Part Number 1: LT3599EFE#PBF-ND; Supplier 2: Newark; Supplier Part Number 2: 46P4018; RoHS: TRUE; Mounting Technology: Surface Mount; ComponentLink1Description: Manufacturer URL; ComponentLink1URL: http://www.linear.com/; ComponentLink2Description: Datasheet; ComponentLink2URL: http://cds.linear.com/docs/en/datasheet/3599fe.pdf; ComponentLink3Description: Package Specification; ComponentLink3URL: http://cds.linear.com/docs/en/packaging/05081663__J_FE28(EB).pdf
footprint LT-FE-28-EPV-EB_N (SOP, 28-Leads, Body 9.8x4.5mm, Pitch 0.65mm, Thermal Pad 4.75x2.74mm, IPC Medium Density)
footprint LT-FE-28-EPV-EB_L (SOP, 28-Leads, Body 9.8x4.5mm, Pitch 0.65mm, Thermal Pad 4.75x2.74mm, IPC High Density)
footprint LT-FE-28-EPV-EB_M (SOP, 28-Leads, Body 9.8x4.5mm, Pitch 0.65mm, Thermal Pad 4.75x2.74mm, IPC Low Density)
part A pins: 1 SW (power) "Switch Pin. This is the collector of the internal NPN power switch. Minimize the metal trace area connected to this pin to minimize EMI.", 2 VOUT (power) "Output Pin. This pin provides power to all LEDs.", 3 VO_SW (out) "Drain of an Internal PMOS. The internal PMOS disconnects the feedback resistors from the VOUT pin during shutdown and when the PWM pin is low.", 4 LED1 (out) "LED String Output. Connect the bottom cathode of each LED string to these pins.", 5 LED2 (out) "LED String Output. Connect the bottom cathode of each LED string to these pins.", 6 LED3 (out) "LED String Output. Connect the bottom cathode of each LED string to these pins.", 7 LED4 (out) "LED String Output. Connect the bottom cathode of each LED string to these pins.", 8 DISABLE4 (in) "Allows Disabling Channel 4. Connect to VREF to disable channel 4. If channel 4 is disabled, the LED4 pin should be connected to the LED3 pin. Connect DISABLE4 to ground to allow operation of channel 4.", 9 ~{SHORTLED} (oc) "Indicates a high side short (LED pin shorted to VOUT). This is an open-collector output.", 11 ~{OPENLED} (oc) "Open LED Flag. An open-collector output when any LED string opens.", 13 ISET (in) "Programs Led Current for Each String. A resistor to ground programs LED currents between 30mA and 120mA.", 14 CTRL (in) "LED Current Control. If the CTRL pin is not used, tie this pin to VREF.", 15 VC "Error Amplifier Output Pin. Tie the external compensation network to this pin.", 16 FB (in) "Feedback Pin for Overvoltage Protection. Reference voltage is 1.223V. Connect the resistive divider tap here. Minimize trace area at FB. Set VOUT according to VOUT = 1.223(1 + R2/R1) when overvoltage protection occurs.", 17 TSET (in) "Programs LT3599 junction temperature breakpoint, beyond which LED currents will begin to decrease. An internal VPTAT threshold (see Block Diagram) increases with junction temperature. When VPTAT exceeds TSET pin voltage, LED (See Datasheet)", 19 SYNC (in) "Frequency Synchronization Pin. This input allows for synchronizing the operating frequency to an external clock. The RT resistor should be chosen to program a switching frequency 20% slower than SYNC pulse frequency. This (See Datasheet)", 21 PWM (in) "Input Pin for PWM Dimming Control. Above 1V allows converter switching, and below 0.4V disables switching with VC pin level maintained. A PWM signal driving the PWM pin provides accurate dimming control. The PWM signal can (See Datasheet)", 22 RT "A Resistor to Ground Which Programs Switching Frequency Between 200kHz and 2.1MHz. For SYNC function, choose the resistor to program a frequency 20% slower than the SYNC pulse frequency. Do not leave this pin open.", 23 SS (in) "Soft-Start Pin. Place a soft-start capacitor here. Upon start-up, a 11uA current charges the capacitor. Use a larger capacitor for a slower start-up.", 24 VREF (in) "Bandgap Voltage Reference. Internally set to 1.227V. This pin can supply up to 100uA. Can be used to program the CTRL pin voltage using resistor dividers to ground.", 25 GND (power) "Analog Ground. Tie directly to local ground plane. Connect RT, ISET and TSET resistors between this local ground plane and their respective pins.", 27 ~{SHDN}/UVLO (in) "The S\H\D\N\/UVLO pin has an accurate 1.36V threshold and can be used to program an undervoltage lockout (UVLO) threshold for system input supply using a resistor divider from supply to ground. A 4uA pin current hysteresis (See Datasheet)", 28 VIN (power) "Input Supply Pin. Must be locally bypassed with a capacitor to ground.", 29 EP (power) "Ground. The ground for the IC should be soldered to a continuous copper ground plane under the LT3599 die."
part B pins: 10 NC "No Connect Pins. Can be left open or connected to any ground plane.", 12 NC "No Connect Pins. Can be left open or connected to any ground plane.", 18 NC "No Connect Pins. Can be left open or connected to any ground plane.", 20 NC "No Connect Pins. Can be left open or connected to any ground plane.", 26 NC "No Connect Pins. Can be left open or connected to any ground plane."

## LT3599EFE#TRPBF
designator U?
4-Channel 100 mA LED Driver with 2% Current Matching, 3 to 30 V Vin, 44 V Vout MAX, 28-pin SOP (FE-28-EPV-EB), -40 to 125 degC, Pb-Free, Tape and Reel; Manufacturer: Linear Technology; PartNumber: LT3599EFE#TRPBF; Topology: Boost, Sepic, LED Driver; Vin Min(V): 3; DatasheetVersion: Rev. E; PackageVersion: Rev. J, 11/2012; PackageReference: FE-28; PackageDescription: 28-Pin Plastic TSSOP, Body 9.7 x 4.4 mm, Pitch 0.65 mm; Supplier 1: Digi-Key; Supplier Part Number 1: LT3599EFE#TRPBF-ND; Supplier 2: Newark; Supplier Part Number 2: 51P4634; Packing: Tape and Reel; RoHS: TRUE; Mounting Technology: Surface Mount; ComponentLink1Description: Manufacturer URL; ComponentLink1URL: http://www.linear.com/; ComponentLink2Description: Datasheet; ComponentLink2URL: http://cds.linear.com/docs/en/datasheet/3599fe.pdf; ComponentLink3Description: Package Specification; ComponentLink3URL: http://cds.linear.com/docs/en/packaging/05081663__J_FE28(EB).pdf
footprint LT-FE-28-EPV-EB_N (SOP, 28-Leads, Body 9.8x4.5mm, Pitch 0.65mm, Thermal Pad 4.75x2.74mm, IPC Medium Density)
footprint LT-FE-28-EPV-EB_L (SOP, 28-Leads, Body 9.8x4.5mm, Pitch 0.65mm, Thermal Pad 4.75x2.74mm, IPC High Density)
footprint LT-FE-28-EPV-EB_M (SOP, 28-Leads, Body 9.8x4.5mm, Pitch 0.65mm, Thermal Pad 4.75x2.74mm, IPC Low Density)
part A pins: 1 SW (power) "Switch Pin. This is the collector of the internal NPN power switch. Minimize the metal trace area connected to this pin to minimize EMI.", 2 VOUT (power) "Output Pin. This pin provides power to all LEDs.", 3 VO_SW (out) "Drain of an Internal PMOS. The internal PMOS disconnects the feedback resistors from the VOUT pin during shutdown and when the PWM pin is low.", 4 LED1 (out) "LED String Output. Connect the bottom cathode of each LED string to these pins.", 5 LED2 (out) "LED String Output. Connect the bottom cathode of each LED string to these pins.", 6 LED3 (out) "LED String Output. Connect the bottom cathode of each LED string to these pins.", 7 LED4 (out) "LED String Output. Connect the bottom cathode of each LED string to these pins.", 8 DISABLE4 (in) "Allows Disabling Channel 4. Connect to VREF to disable channel 4. If channel 4 is disabled, the LED4 pin should be connected to the LED3 pin. Connect DISABLE4 to ground to allow operation of channel 4.", 9 ~{SHORTLED} (oc) "Indicates a high side short (LED pin shorted to VOUT). This is an open-collector output.", 11 ~{OPENLED} (oc) "Open LED Flag. An open-collector output when any LED string opens.", 13 ISET (in) "Programs Led Current for Each String. A resistor to ground programs LED currents between 30mA and 120mA.", 14 CTRL (in) "LED Current Control. If the CTRL pin is not used, tie this pin to VREF.", 15 VC "Error Amplifier Output Pin. Tie the external compensation network to this pin.", 16 FB (in) "Feedback Pin for Overvoltage Protection. Reference voltage is 1.223V. Connect the resistive divider tap here. Minimize trace area at FB. Set VOUT according to VOUT = 1.223(1 + R2/R1) when overvoltage protection occurs.", 17 TSET (in) "Programs LT3599 junction temperature breakpoint, beyond which LED currents will begin to decrease. An internal VPTAT threshold (see Block Diagram) increases with junction temperature. When VPTAT exceeds TSET pin voltage, LED (See Datasheet)", 19 SYNC (in) "Frequency Synchronization Pin. This input allows for synchronizing the operating frequency to an external clock. The RT resistor should be chosen to program a switching frequency 20% slower than SYNC pulse frequency. This (See Datasheet)", 21 PWM (in) "Input Pin for PWM Dimming Control. Above 1V allows converter switching, and below 0.4V disables switching with VC pin level maintained. A PWM signal driving the PWM pin provides accurate dimming control. The PWM signal can (See Datasheet)", 22 RT "A Resistor to Ground Which Programs Switching Frequency Between 200kHz and 2.1MHz. For SYNC function, choose the resistor to program a frequency 20% slower than the SYNC pulse frequency. Do not leave this pin open.", 23 SS (in) "Soft-Start Pin. Place a soft-start capacitor here. Upon start-up, a 11uA current charges the capacitor. Use a larger capacitor for a slower start-up.", 24 VREF (in) "Bandgap Voltage Reference. Internally set to 1.227V. This pin can supply up to 100uA. Can be used to program the CTRL pin voltage using resistor dividers to ground.", 25 GND (power) "Analog Ground. Tie directly to local ground plane. Connect RT, ISET and TSET resistors between this local ground plane and their respective pins.", 27 ~{SHDN}/UVLO (in) "The S\H\D\N\/UVLO pin has an accurate 1.36V threshold and can be used to program an undervoltage lockout (UVLO) threshold for system input supply using a resistor divider from supply to ground. A 4uA pin current hysteresis (See Datasheet)", 28 VIN (power) "Input Supply Pin. Must be locally bypassed with a capacitor to ground.", 29 EP (power) "Ground. The ground for the IC should be soldered to a continuous copper ground plane under the LT3599 die."
part B pins: 10 NC "No Connect Pins. Can be left open or connected to any ground plane.", 12 NC "No Connect Pins. Can be left open or connected to any ground plane.", 18 NC "No Connect Pins. Can be left open or connected to any ground plane.", 20 NC "No Connect Pins. Can be left open or connected to any ground plane.", 26 NC "No Connect Pins. Can be left open or connected to any ground plane."